# Altium schematic symbol library ZLS_Schematic_lib.SchLib: 7 symbols
Pins are listed as number, name and electrical type; pins without a type are passive.

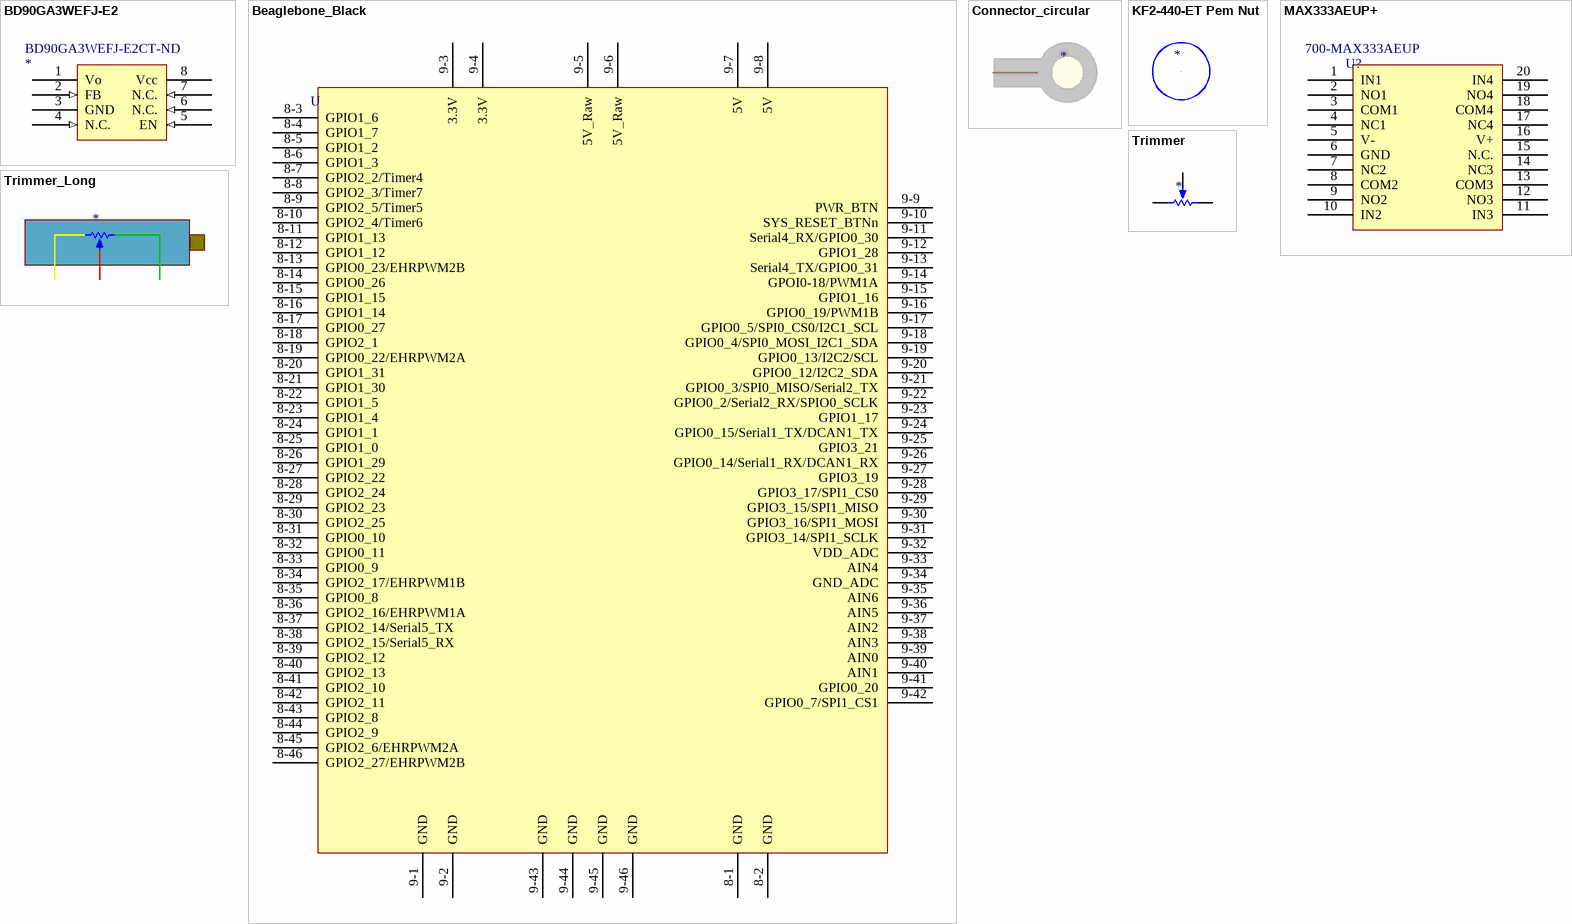
[diagram p0: symbols BD90GA3WEFJ-E2 to Trimmer_Long]

## BD90GA3WEFJ-E2
designator *  Supplier Part Number 1: BD90GA3WEFJ-E2CT-ND  (hidden comment: *)
Supplier 1: Digi-Key
footprint TSOP127P600X100-8N (TSOP, 8-Leads, Body 4.90x3.90mm, Pitch 1.27mm, IPC Medium Density)
pins: 1 Vo (power), 2 FB (in), 3 GND (power), 4 N.C. (in), 5 EN (in), 6 N.C. (in), 7 N.C. (in), 8 Vcc (power)

## Beaglebone_Black
designator U, comment BBB  (value not drawn)
Beaglebone Black
footprint Beaglebone Black
pins: 8-1 GND, 8-2 GND, 8-3 GPIO1_6, 8-4 GPIO1_7, 8-5 GPIO1_2, 8-6 GPIO1_3, 8-7 GPIO2_2/Timer4, 8-8 GPIO2_3/Timer7, 8-9 GPIO2_5/Timer5, 8-10 GPIO2_4/Timer6, 8-11 GPIO1_13, 8-12 GPIO1_12, 8-13 GPIO0_23/EHRPWM2B, 8-14 GPIO0_26, 8-15 GPIO1_15, 8-16 GPIO1_14, 8-17 GPIO0_27, 8-18 GPIO2_1, 8-19 GPIO0_22/EHRPWM2A, 8-20 GPIO1_31, 8-21 GPIO1_30, 8-22 GPIO1_5, 8-23 GPIO1_4, 8-24 GPIO1_1, 8-25 GPIO1_0, 8-26 GPIO1_29, 8-27 GPIO2_22, 8-28 GPIO2_24, 8-29 GPIO2_23, 8-30 GPIO2_25, 8-31 GPIO0_10, 8-32 GPIO0_11, 8-33 GPIO0_9, 8-34 GPIO2_17/EHRPWM1B, 8-35 GPIO0_8, 8-36 GPIO2_16/EHRPWM1A, 8-37 GPIO2_14/Serial5_TX, 8-38 GPIO2_15/Serial5_RX, 8-39 GPIO2_12, 8-40 GPIO2_13, 8-41 GPIO2_10, 8-42 GPIO2_11, 8-43 GPIO2_8, 8-44 GPIO2_9, 8-45 GPIO2_6/EHRPWM2A, 8-46 GPIO2_27/EHRPWM2B, 9-1 GND, 9-2 GND, 9-3 3.3V, 9-4 3.3V, 9-5 5V_Raw, 9-6 5V_Raw, 9-7 5V, 9-8 5V, 9-9 PWR_BTN, 9-10 SYS_RESET_BTNn, 9-11 Serial4_RX/GPIO0_30, 9-12 GPIO1_28, 9-13 Serial4_TX/GPIO0_31, 9-14 GPOI0-18/PWM1A, 9-15 GPIO1_16, 9-16 GPIO0_19/PWM1B, 9-17 GPIO0_5/SPI0_CS0/I2C1_SCL, 9-18 GPIO0_4/SPI0_MOSI_I2C1_SDA, 9-19 GPIO0_13/I2C2/SCL, 9-20 GPIO0_12/I2C2_SDA, 9-21 GPIO0_3/SPI0_MISO/Serial2_TX, 9-22 GPIO0_2/Serial2_RX/SPIO0_SCLK, 9-23 GPIO1_17, 9-24 GPIO0_15/Serial1_TX/DCAN1_TX, 9-25 GPIO3_21, 9-26 GPIO0_14/Serial1_RX/DCAN1_RX, 9-27 GPIO3_19, 9-28 GPIO3_17/SPI1_CS0, 9-29 GPIO3_15/SPI1_MISO, 9-30 GPIO3_16/SPI1_MOSI, 9-31 GPIO3_14/SPI1_SCLK, 9-32 VDD_ADC, 9-33 AIN4, 9-34 GND_ADC, 9-35 AIN6, 9-36 AIN5, 9-37 AIN2, 9-38 AIN3, 9-39 AIN0, 9-40 AIN1, 9-41 GPIO0_20, 9-42 GPIO0_7/SPI1_CS1, 9-43 GND, 9-44 GND, 9-45 GND, 9-46 GND

## Connector_circular
designator *  (value not drawn)
pins: 1

## KF2-440-ET Pem Nut
designator *  (value not drawn)
footprint KF2-440-ET (KF2-440-ET Pem Nut)
pins: 1

## MAX333AEUP+
designator U?  Supplier Part Number 1: 700-MAX333AEUP  (hidden comment: *)
Supplier 1: Mouser
footprint TSOP65P640X90-20N (TSOP, 20-Leads, Body 6.50x4.40mm, Pitch 0.65mm, IPC Medium Density)
pins: 1 IN1, 2 NO1, 3 COM1, 4 NC1, 5 V- (power), 6 GND, 7 NC2, 8 COM2, 9 NO2, 10 IN2, 11 IN3, 12 NO3, 13 COM3, 14 NC3, 15 N.C., 16 V+ (power), 17 NC4, 18 COM4, 19 NO4, 20 IN4

## Trimmer
designator *  (value not drawn)
pins: 1 a, 2 b, 3 c

## Trimmer_Long
designator *  (value not drawn)
pins: 1 a, 2 b, 3 c